# Altium footprint library ICs.PcbLib: 115 footprints (part 8 of 8)
Each footprint in its own frame and in the unit in brackets; x right, y up, seen from the top. Pads: shape width x height; smd on the part's side, far side on the other; paste and mask are expansions set on the pad; w line width, h text height; cw(c..) or ccw(c..) is an arc to the next point about the centre after c.
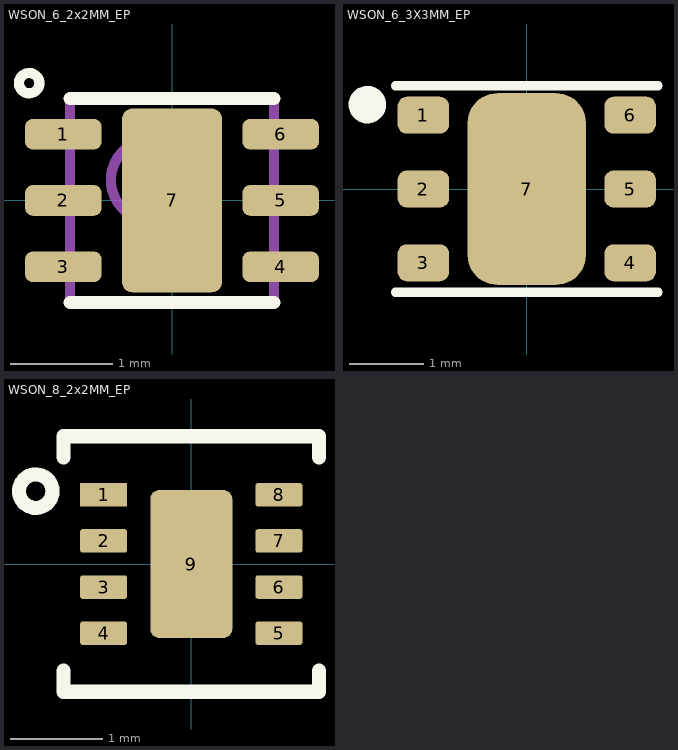
[diagram p7: the footprints below, top view; thin cyan lines are the x and y axes]

## WSON_6_2x2MM_EP [mm] "WDFN-6 , SON-6 / 20200724 / N-A.Potosi"
height 0.8
pads (7):
  rrect50% 0.75x0.3 smd: 1(-1.065,0.65) 2(-1.065,0) 3(-1.065,-0.65) 4(1.065,-0.65) 5(1.065,0) 6(1.065,0.65)
  rrect20% 0.98x1.8 smd: 7(0,0)
Top Overlay:
  circle w0.1: c-1.4,1.15 r0.1
  lines w0.127: -1,-1 1,-1 ; -1,1 1,1
Mechanical 1:
  circle w0.1: c-0.2,0.2 r0.4
  lines w0.1: -1,-1 1,-1 1,1 -1,1 -1,-1
3D body: height 0.8, standoff 0.05, extent -1,-1 1,1

## WSON_6_3X3MM_EP [mm] "WDFN-6 / 20201125 / C-D Viveros"
pads (7):
  rrect50% 0.7x0.5 smd: 1(-1.4,1) 2(-1.4,0) 3(-1.4,-1) 4(1.4,-1) 5(1.4,0) 6(1.4,1)
  rrect50% 1.6x2.6 smd: 7(0,0)
Top Overlay:
  circle w0.254: c-2.159,1.143 r0.127
  lines w0.127: -1.778,-1.397 1.778,-1.397 ; -1.778,1.397 1.778,1.397
3D body "User Library-DMB0006A.STEP": height 0.8, standoff 0, extent -1.5,-1.5 1.5,1.5

## WSON_8_2x2MM_EP [mil] "8-WFDFN_EP/20220531/V-A.Patino"
pads (9):
  rect 20x10 smd mask+3: 1(-37.4,29.53)
  rrect20% 20x10 smd mask+3: 2(-37.4,9.84) 3(-37.4,-9.84) 4(-37.4,-29.53) 5(37.4,-29.53) 6(37.4,-9.84) 7(37.4,9.84) 8(37.4,29.53)
  rrect20% 35x63 smd: 9(0,0)
Top Overlay:
  circle w6: c-66.36,31.07 r7.14
  lines w6: -54.5,-45.54 -54.5,-54.5 54.5,-54.5 54.5,-45.54 ; -54.5,45.54 -54.5,54.5 54.5,54.5 54.5,45.54
3D body "DSG0008A.stp": height 30.51, standoff 0, extent -39.36,-39.36 39.38,39.38